# Altium schematic symbol library MyLib.SchLib: 9 symbols
Pins are listed as number, name and electrical type; pins without a type are passive.

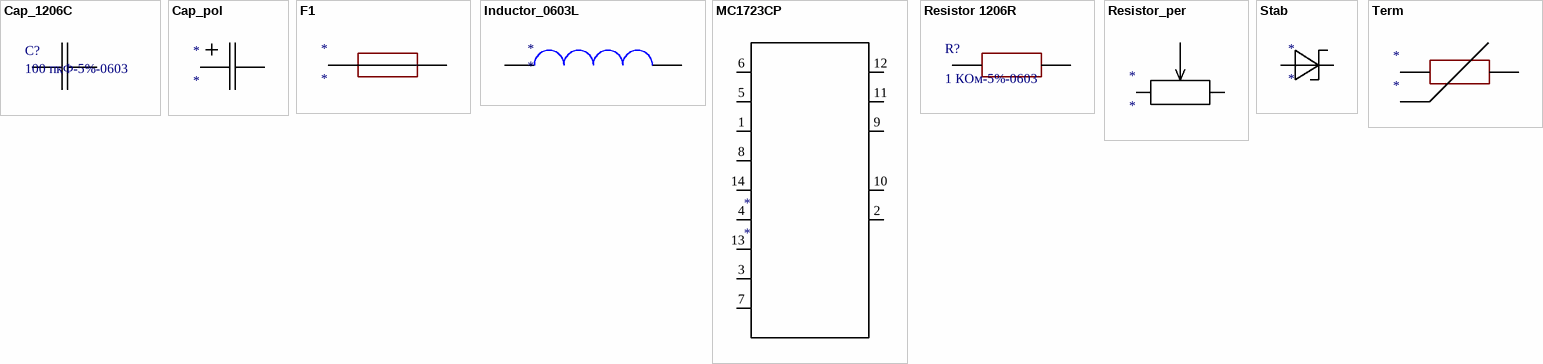
[diagram p0: symbols Cap_1206C to Term]

## Cap_1206C
designator C?, comment 100 пкФ-5%-0603
footprint 1206_cond
pins: 0, 1

## Cap_pol
designator *
footprint TAJD (Chip Capacitor, 2-Leads, Body 7,30x2,40mm, IPC Medium Density)
pins: 0, 1

## F1
designator *
footprint F1
pins: 0, 1

## Inductor_0603L
designator *
footprint Ind (Molded Inductor, 2-Leads, Body 4,20x4,20mm, IPC Medium Density)
pins: 0, 1

## MC1723CP
designator *
footprint SOIC-14 (SOIC, 14-Leads, Body 8,60x3,90mm, Pitch 1,27mm, IPC Medium Density)
pins: 1, 2, 3, 4, 5, 6, 7, 8, 9, 10, 11, 12, 13, 14

## Resistor 1206R
designator R?, comment 1 КОм-5%-0603
footprint 1206 (Chip Resistor, 2-Leads, Body 3,10x1,60mm, IPC Medium Density)
pins: 0, 1

## Resistor_per
designator *
footprint 16K1
pins: 1, 2, 3

## Stab
designator *
footprint Stab
pins: 0, 1

## Term
designator *
footprint Term (Chip Resistor, 2-Leads, Body 1,60x0,80mm, IPC Medium Density)
pins: 0, 1